# EAGLE library part 691321100008 (library Wurth_Elektronik_Electromechanic_Terminal_Blocks_Connectors_rev16b)
WR-TBL Serie 3211 - 3.50mm Vertical PCB Header , 8 Pins Con_TBL_Pluggable_3.50_PCB_V_6913211000xx_691321100008 <http://katalog.we-online.de/media/images/eican/Con_TBL_Pluggable_3.50_PCB_V_6913211000xx_pf2.jpg> Details see: http://katalog.we-online.de/en/em/691_321_100_0xx/691_321_100_008?m Created 2014-12-22, aslant tao 2014 (C) Würth Elektronik
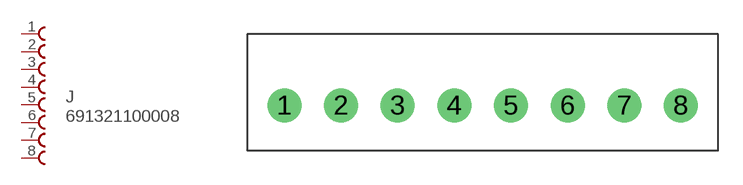
[diagram p11: symbol with the pads of 691321100008; footprint 691321100008]

Designator prefix J

## 691321100008  [691321100008]
1  1  pas
2  2  pas
3  3  pas
4  4  pas
5  5  pas
6  6  pas
7  7  pas
8  8  pas

## Footprint 691321100008 (pad centres in mm)
WR-TBL Serie 3211 - 3.50mm Vertical PCB Header , 8 Pins
drill 1.4: 1 -10.5,0; 2 -7,0; 3 -3.5,0; 4 0,0; 5 3.5,0; 6 7,0; 7 10.5,0; 8 14,0